# EAGLE library part TPS5410DR (library DougsLab)
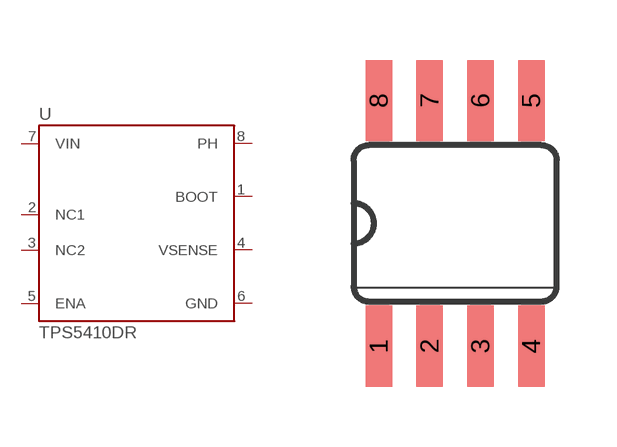
[diagram p5: symbol with the pads of SO08; footprint SO08]

Designator prefix U

## TPS5410DR  [SO08]
1  BOOT
2  NC1
3  NC2
4  VSENSE
5  ENA
6  GND
7  VIN
8  PH

## Footprint SO08 (pad centres in mm)
Small Outline Package SOIC 150 mil
smd 0.66 x 2.032: 1 -1.905,-3.073; 2 -0.635,-3.073; 3 0.635,-3.073; 4 1.905,-3.073; 5 1.905,3.073; 6 0.635,3.073; 7 -0.635,3.073; 8 -1.905,3.073